# Altium footprint library backplanelib.PcbLib: 14 footprints
Each footprint in its own frame and in the unit in brackets; x right, y up, seen from the top. Pads: shape width x height; smd on the part's side, far side on the other; paste and mask are expansions set on the pad; w line width, h text height; cw(c..) or ccw(c..) is an arc to the next point about the centre after c.
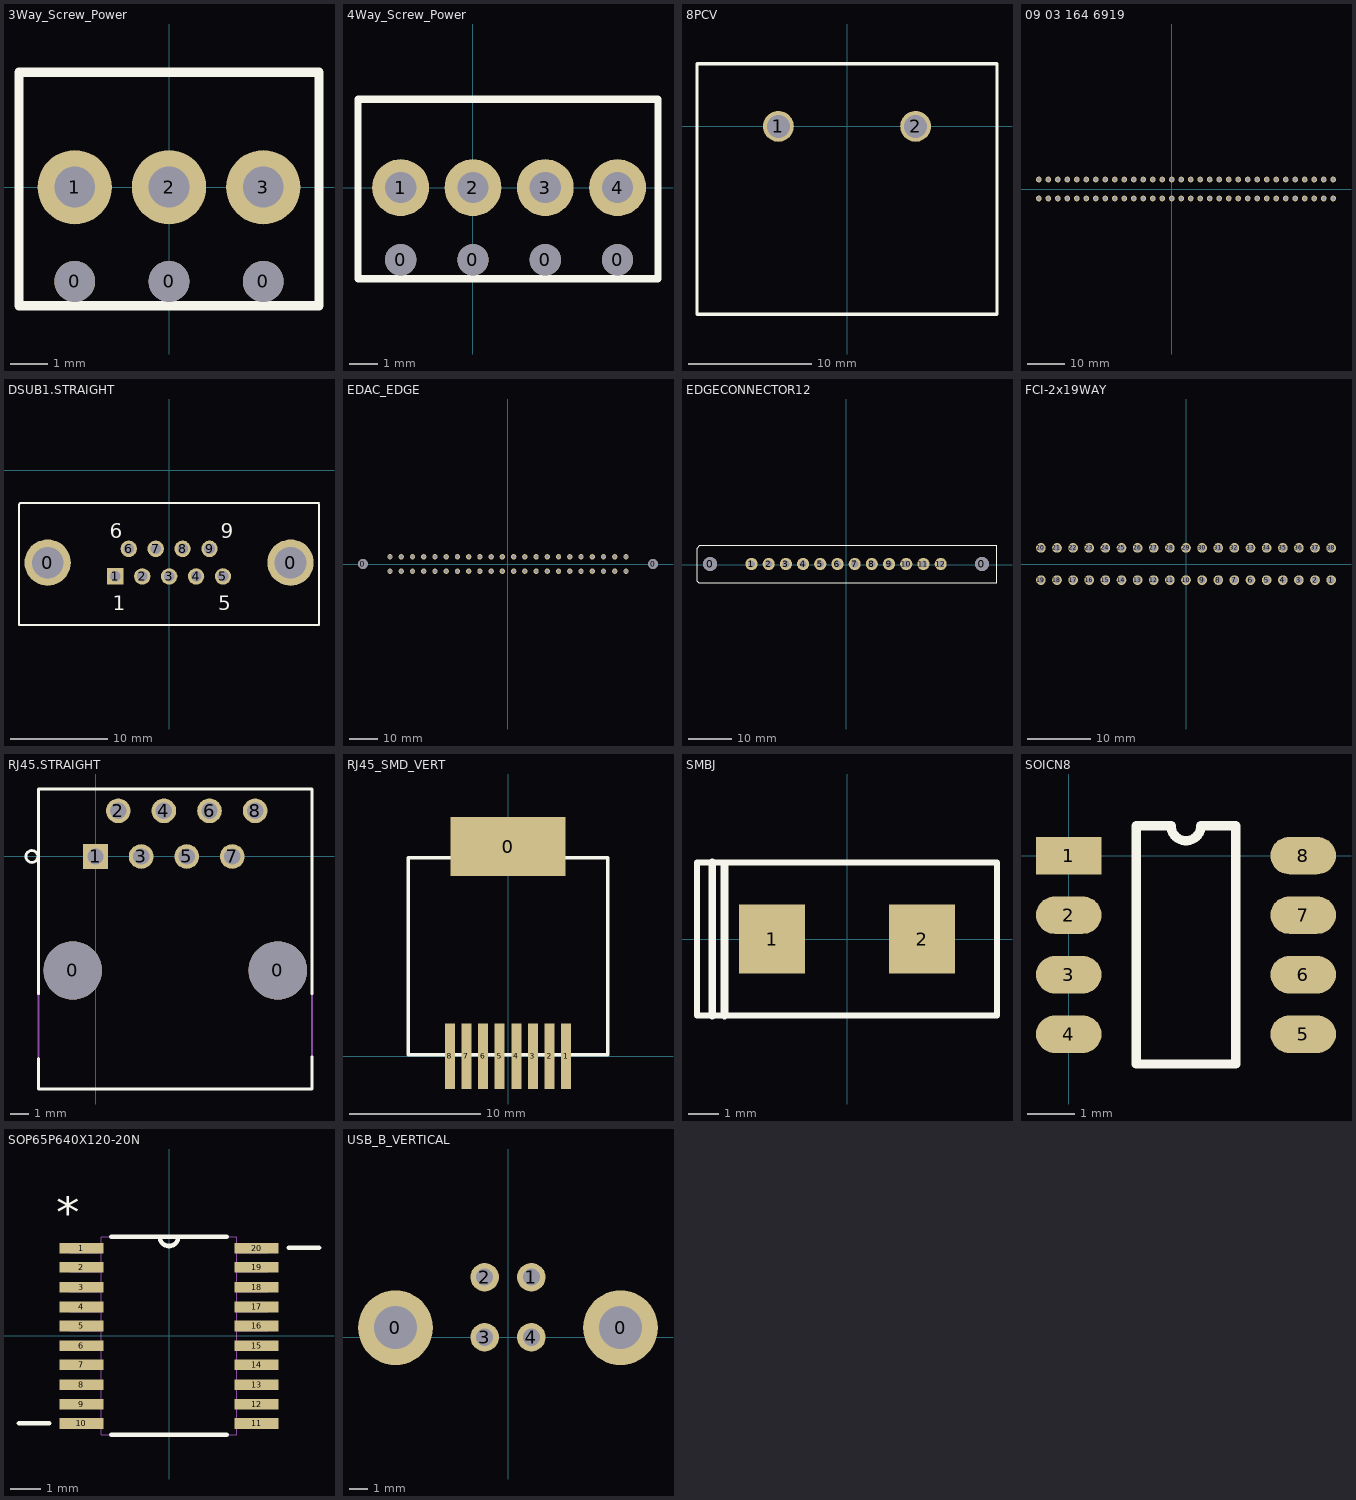
[diagram p0: the footprints below, top view; thin cyan lines are the x and y axes]

## 3Way_Screw_Power [mm]
pads (6):
  round 1.1 hole 1.1: 0(-2.54,-2.54) 0(0,-2.54) 0(2.54,-2.54)
  round 2 hole 1.1: 1(-2.54,0) 2(0,0) 3(2.54,0)
Top Overlay:
  lines w0.254: -4.04,-3.2 -4.04,3.1 4.04,3.1 4.04,-3.2 -4.04,-3.2

## 4Way_Screw_Power [mm]
pads (8):
  round 1.1 hole 1.1: 0(-2.54,-2.54) 0(0,-2.54) 0(2.54,-2.54) 0(5.08,-2.54)
  round 2 hole 1.1: 1(-2.54,0) 2(0,0) 3(2.54,0) 4(5.08,0)
Top Overlay:
  lines w0.254: -4.04,-3.2 -4.04,3.1 6.5,3.1 6.5,-3.2 -4.04,-3.2

## 8PCV [mil]
pads (2):
  round 98.43 hole 73: 1(-219,0) 2(219,0)
Top Overlay:
  lines w10: -479,-600 479,-600 479,200 -479,200 -479,-600
3D body "c-5-1437657-7-r-3d.stp": height 770, standoff -185, extent -472.44,-600.79 475.56,199.21

## 09 03 164 6919 [mil]
pads (64):
  round 60 hole 39.37: 0(-1400,100) 1(-1300,100) 2(-1200,100) 3(-1100,100) 4(-1000,100) 5(-900,100) 6(-800,100) 7(-700,100) 8(-600,100) 9(-500,100) 10(-400,100) 11(-300,100) 12(-200,100) 13(-100,100) 14(0,100) 15(100,100) 16(200,100) 17(300,100) 18(400,100) 19(500,100) 20(600,100) 21(700,100) 22(800,100) 23(900,100) 24(1000,100) 25(1100,100) 26(1200,100) 27(1300,100) 28(1400,100) 29(1500,100) 30(1600,100) 31(1700,100) 32(-1400,-100) 33(-1300,-100) 34(-1200,-100) 35(-1100,-100) 36(-1000,-100) 37(-900,-100) 38(-800,-100) 39(-700,-100) 40(-600,-100) 41(-500,-100) 42(-400,-100) 43(-300,-100) 44(-200,-100) 45(-100,-100) 46(0,-100) 47(100,-100) 48(200,-100) 49(300,-100) 50(400,-100) 51(500,-100) 52(600,-100) 53(700,-100) 54(800,-100) 55(900,-100) 56(1000,-100) 57(1100,-100) 58(1200,-100) 59(1300,-100) 60(1400,-100) 61(1500,-100) 62(1600,-100) 63(1700,-100)
3D body "09032101000450_100072335MOD000B.STP": height 476.7, standoff -157.16, extent -1719.69,-206.69 2016.54,206.69

## DSUB1.STRAIGHT [mm]
height 12.75
pads (11):
  round 4.76 hole 3.26: 0(-12.495,-9.5) 0(12.495,-9.5)
  rect 1.69x1.69 hole 1.09: 1(-5.54,-10.92)
  round 1.69 hole 1.09: 2(-2.77,-10.92) 3(0,-10.92) 4(2.77,-10.92) 5(5.54,-10.92) 6(-4.155,-8.08) 7(-1.385,-8.08) 8(1.385,-8.08) 9(4.155,-8.08)
Top Overlay:
  lines w0.2: 15.357,-15.9 -15.443,-15.9 -15.443,-3.505 -15.319,-3.381 15.4,-3.381 ; 15.418,-15.9 15.418,-3.505
  text "1" at -5.79,-14.375 h1.5
  text "5" at 5.04,-14.375 h1.5
  text "9" at 5.334,-6.985 h1.5
  text "6" at -6.096,-6.985 h1.5
3D body "172-009-212.STEP": height 12.7, standoff -4.71, extent -15.443,-15.9 15.367,-3.302

## EDAC_EDGE [mm]
pads (46):
  round 3.45 hole 3.45: 0(-51.13,0) 0(51.13,0)
  round 1.87 hole 1.27: 1(-41.58,-2.54) 2(-37.62,-2.54) 3(-33.66,-2.54) 4(-29.7,-2.54) 5(-25.74,-2.54) 6(-21.78,-2.54) 7(-17.82,-2.54) 8(-13.86,-2.54) 9(-9.9,-2.54) 10(-5.94,-2.54) 11(-1.98,-2.54) 12(1.98,-2.54) 13(5.94,-2.54) 14(9.9,-2.54) 15(13.86,-2.54) 16(17.82,-2.54) 17(21.78,-2.54) 18(25.74,-2.54) 19(29.7,-2.54) 20(33.66,-2.54) 21(37.62,-2.54) 22(41.58,-2.54) 23(41.58,2.54) 24(37.62,2.54) 25(33.66,2.54) 26(29.7,2.54) 27(25.74,2.54) 28(21.78,2.54) 29(17.82,2.54) 30(13.86,2.54) 31(9.9,2.54) 32(5.94,2.54) 33(1.98,2.54) 34(-1.98,2.54) 35(-5.94,2.54) 36(-9.9,2.54) 37(-13.86,2.54) 38(-17.82,2.54) 39(-21.78,2.54) 40(-25.74,2.54) 41(-29.7,2.54) 42(-33.66,2.54) 43(-37.62,2.54) 44(-41.58,2.54)
3D body "EDAC-307-044-520-202.step": height 12.01, standoff -5.41, extent -55.1,-4.356 55.085,4.356

## EDGECONNECTOR12 [mm]
pads (14):
  round 3.25 hole 3.25: 0(-31.387,0.127) 0(31.213,0.127)
  round 2.8 hole 1.65: 1(-21.867,0.127) 2(-17.907,0.127) 3(-13.947,0.127) 4(-9.987,0.127) 5(-6.027,0.127) 6(-2.067,0.127) 7(1.893,0.127) 8(5.853,0.127) 9(9.813,0.127) 10(13.773,0.127) 11(17.733,0.127) 12(21.693,0.127)
Top Overlay:
  lines w0.254: -34.417,-3.81 -34.036,-4.191 34.671,-4.191 34.671,4.445 -33.782,4.445 -34.417,3.81 -34.417,-3.81
3D body "connector.stp": height 11.63, standoff 0, extent -34.519,-4.188 34.641,4.444

## FCI-2x19WAY [mil]
pads (38):
  round 60 hole 43.31: 1(900,-100) 2(800,-100) 3(700,-100) 4(600,-100) 5(500,-100) 6(400,-100) 7(300,-100) 8(200,-100) 9(100,-100) 10(0,-100) 11(-100,-100) 12(-200,-100) 13(-300,-100) 14(-400,-100) 15(-500,-100) 16(-600,-100) 17(-700,-100) 18(-800,-100) 19(-900,-100) 20(-900,100) 21(-800,100) 22(-700,100) 23(-600,100) 24(-500,100) 25(-400,100) 26(-300,100) 27(-200,100) 28(-100,100) 29(0,100) 30(100,100) 31(200,100) 32(300,100) 33(400,100) 34(500,100) 35(600,100) 36(700,100) 37(800,100) 38(900,100)
3D body "10046971004lf.stp": height 609.84, standoff -125.59, extent -1079.52,-184.05 1079.53,184.06
3D body "10046971004lf.stp": height 609.84, standoff -125.59, extent -1079.52,-184.05 1079.53,184.06

## RJ45.STRAIGHT [mil]
pads (10):
  round 128 hole 128: 0(-50,-250) 0(400,-250)
  rect 54x54 hole 36: 1(0,0)
  round 54 hole 36: 2(50,100) 3(100,0) 4(150,100) 5(200,0) 6(250,100) 7(300,0) 8(350,100)
Top Overlay:
  circle w6: c-139.76,0 r13
  lines w6: -125,-442.91 -125,-510 475,-510 475,-438.98 ; -125,-301.18 -125,148 -118.11,148 ; -120.08,148 -118.11,148 ; 475,-301.18 475,148 -118.11,148
Mechanical 2:
  text ">Name" at 44,180 h77.5
Mechanical 4:
  text ">Value" at 56,-637.8 h77.5
Mechanical 16:
  lines w5: -125,-510 -125,148 475,148 475,-510 -125,-510
3D body "424108312.stp": height 632.46, standoff -140.54, extent -180,-507.49 530,117.51

## RJ45_SMD_VERT [mm]
pads (9):
  rect 8.8x4.5 smd: 0(0,16.05)
  rect 0.76x5 smd: 1(4.445,0) 2(3.175,0) 3(1.905,0) 4(0.635,0) 5(-0.635,0) 6(-1.905,0) 7(-3.175,0) 8(-4.445,0)
Top Overlay:
  lines w0.254: -7.62,0.12 7.62,0.12 7.62,15.2 -7.62,15.2 -7.62,0.12
3D body "855135013.stp": height 12.85, standoff 0, extent -7.62,-1.74 7.62,17.74

## SMBJ [mm]
pads (2):
  rect 2.16x2.26 smd: 1(-2.45,0) 2(2.45,0)
Top Overlay:
  lines w0.2: -4.9,-2.5 -4.9,0 -4.9,2.5 4.9,2.5 4.9,-2.5 -4.9,-2.5
  lines w0.254: -4.4,-2.5 -4.4,2.5 ; -4,-2.5 -4,2.4
3D body: height 2, standoff 0, extent -2.8,-2 2.9,2
3D body: height 0.5, standoff 0, extent -3.2,-1.1 -2.8,1.1
3D body: height 0.5, standoff 0, extent 2.9,-1.1 3.3,1.1

## SOICN8 [mm]
pads (8):
  rect 1.4x0.8 smd: 1(0,0)
  oval 1.4x0.8 smd: 2(0,-1.27) 3(0,-2.54) 4(0,-3.81) 5(5,-3.81) 6(5,-2.54) 7(5,-1.27) 8(5,0)
Top Overlay:
  lines w0.2: 1.435,-4.445 3.565,-4.445 3.565,0.635 2.818,0.635 cw(c2.5,0.635) 2.183,0.635 1.435,0.635 1.435,-4.445
3D body: height 0.5, standoff 0, extent 4.318,-0.254 5.461,0.254
3D body: height 0.5, standoff 0, extent 4.318,-1.524 5.461,-1.016
3D body: height 0.5, standoff 0, extent 4.318,-2.794 5.461,-2.286
3D body: height 0.5, standoff 0, extent 4.318,-4.064 5.461,-3.556
3D body: height 0.5, standoff 0, extent -0.381,-4.064 0.762,-3.556
3D body: height 0.5, standoff 0, extent -0.381,-2.794 0.762,-2.286
3D body: height 0.5, standoff 0, extent -0.381,-1.524 0.762,-1.016
3D body: height 0.5, standoff 0, extent -0.381,-0.254 0.762,0.254
3D body: height 1, standoff 0, extent 0.762,-4.699 4.318,0.889

## SOP65P640X120-20N [mil]
pads (20):
  rect 58x14 smd: 1(-115,115) 2(-115,90) 3(-115,64) 4(-115,38) 5(-115,13) 6(-115,-13) 7(-115,-38) 8(-115,-64) 9(-115,-90) 10(-115,-115) 11(115,-115) 12(115,-90) 13(115,-64) 14(115,-38) 15(115,-13) 16(115,13) 17(115,38) 18(115,64) 19(115,90) 20(115,115)
Top Overlay:
  lines w6: -197,-115 -157,-115 ; -76,-130 76,-130 ; -76,130 -12,130 ; 76,130 12,130 ; 157,116 197,116 ; -12,130 ccw(c0,130) 12,130 ; -12,130 12,130
  text "*" at -148,124 h77.5
Mechanical 16:
  lines w0: -12,130 ccw(c0,130) 12,130 ; -12,130 -89,130 -89,-130 89,-130 89,130 12,130 ; -12,130 12,130 ; -130,-121 -89,-121 -89,-109 -130,-109 -130,-121 ; -130,-95 -89,-95 -89,-84 -130,-84 -130,-95 ; -130,-70 -89,-70 -89,-58 -130,-58 -130,-70 ; -130,-44 -89,-44 -89,-32 -130,-32 -130,-44 ; -130,-19 -89,-19 -89,-7 -130,-7 -130,-19 ; -130,7 -89,7 -89,19 -130,19 -130,7 ; -130,32 -89,32 -89,44 -130,44 -130,32 ; -130,58 -89,58 -89,70 -130,70 -130,58 ; -130,84 -89,84 -89,95 -130,95 -130,84 ; -130,109 -89,109 -89,121 -130,121 -130,109 ; 89,-121 130,-121 130,-109 89,-109 89,-121 ; 89,-95 130,-95 130,-84 89,-84 89,-95 ; 89,-70 130,-70 130,-58 89,-58 89,-70 ; 89,-44 130,-44 130,-32 89,-32 89,-44 ; 89,-19 130,-19 130,-7 89,-7 89,-19 ; 89,7 130,7 130,19 89,19 89,7 ; 89,32 130,32 130,44 89,44 89,32 ; 89,58 130,58 130,70 89,70 89,58 ; 89,84 130,84 130,95 89,95 89,84 ; 89,109 130,109 130,121 89,121 89,109
  text "*" at -148,124 h77.5

## USB_B_VERTICAL [mm]
pads (6):
  round 4 hole 2.3: 0(-6.02,0.505) 0(6.02,0.505)
  round 1.524 hole 0.92: 1(1.25,3.21) 2(-1.25,3.21) 3(-1.25,0) 4(1.25,0)
3D body "c-5787834-1-a-3d.stp": height 15.94, standoff -3.7, extent -7.471,-4.056 7.671,7.4